# Altium schematic symbol library STM32G473VEH6.SchLib: 1 symbol
Pins are listed as number, name and electrical type; pins without a type are passive.

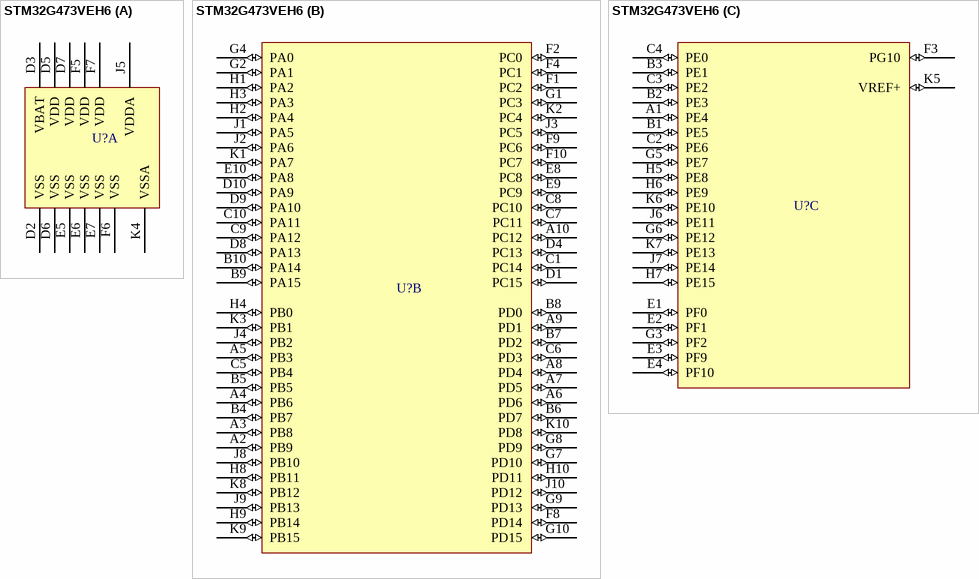
[diagram p0: symbol STM32G473VEH6]

## STM32G473VEH6
designator U?  (value not drawn)
Mainstream Arm Cortex-M4 MCU 170 MHz with 512 Kbytes of Flash memory, Math Accelerator, High Analog level integration
part A pins: D2 VSS (power), D3 VBAT (power), D5 VDD (power), D6 VSS (power), D7 VDD (power), E5 VSS (power), E6 VSS (power), E7 VSS (power), F5 VDD (power), F6 VSS (power), F7 VDD (power), J5 VDDA (power), K4 VSSA (power)
part B pins: A2 PB9 (io), A3 PB8 (io), A4 PB6 (io), A5 PB3 (io), A6 PD6 (io), A7 PD5 (io), A8 PD4 (io), A9 PD1 (io), A10 PC12 (io), B4 PB7 (io), B5 PB5 (io), B6 PD7 (io), B7 PD2 (io), B8 PD0 (io), B9 PA15 (io), B10 PA14 (io), C1 PC14 (io), C5 PB4 (io), C6 PD3 (io), C7 PC11 (io), C8 PC10 (io), C9 PA12 (io), C10 PA11 (io), D1 PC15 (io), D4 PC13 (io), D8 PA13 (io), D9 PA10 (io), D10 PA9 (io), E8 PC8 (io), E9 PC9 (io), E10 PA8 (io), F1 PC2 (io), F2 PC0 (io), F4 PC1 (io), F8 PD14 (io), F9 PC6 (io), F10 PC7 (io), G1 PC3 (io), G2 PA1 (io), G4 PA0 (io), G7 PD10 (io), G8 PD9 (io), G9 PD13 (io), G10 PD15 (io), H1 PA2 (io), H2 PA4 (io), H3 PA3 (io), H4 PB0 (io), H8 PB11 (io), H9 PB14 (io), H10 PD11 (io), J1 PA5 (io), J2 PA6 (io), J3 PC5 (io), J4 PB2 (io), J8 PB10 (io), J9 PB13 (io), J10 PD12 (io), K1 PA7 (io), K2 PC4 (io), K3 PB1 (io), K8 PB12 (io), K9 PB15 (io), K10 PD8 (io)
part C pins: A1 PE4 (io), B1 PE5 (io), B2 PE3 (io), B3 PE1 (io), C2 PE6 (io), C3 PE2 (io), C4 PE0 (io), E1 PF0 (io), E2 PF1 (io), E3 PF9 (io), E4 PF10 (io), F3 PG10 (io), G3 PF2 (io), G5 PE7 (io), G6 PE12 (io), H5 PE8 (io), H6 PE9 (io), H7 PE15 (io), J6 PE11 (io), J7 PE14 (io), K5 VREF+ (io), K6 PE10 (io), K7 PE13 (io)